# EAGLE library part DF17-20P (library Lysenko_Eagle_Lib)
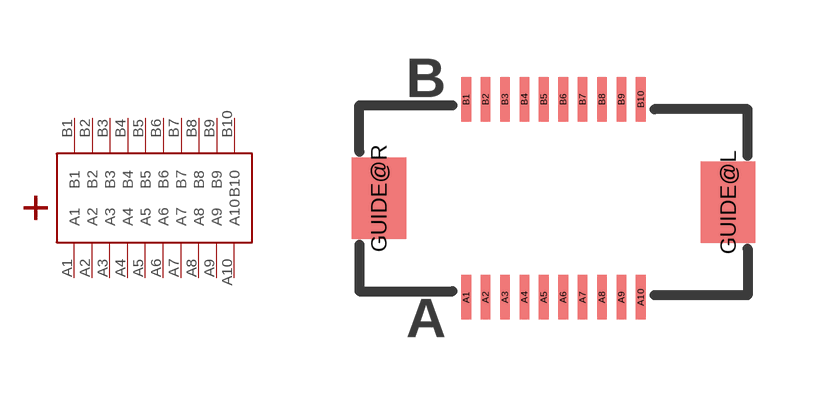
[diagram p13: symbol with the pads of DF17-20P; footprint DF17-20P]

Designator prefix -

## DF17-20P  [DF17-20P]
A1  A1
A2  A2
A3  A3
A4  A4
A5  A5
A6  A6
A7  A7
A8  A8
A9  A9
A10  A10
B1  B1
B2  B2
B3  B3
B4  B4
B5  B5
B6  B6
B7  B7
B8  B8
B9  B9
B10  B10

## Footprint DF17-20P (pad centres in mm)
smd 0.25 x 1.15: A1 -4.67,-2.553; A2 -4.17,-2.553; A3 -3.67,-2.553; A4 -3.17,-2.553; A5 -2.67,-2.553; A6 -2.17,-2.553; A7 -1.67,-2.553; A8 -1.17,-2.553; A9 -0.67,-2.553; A10 -0.17,-2.553; B1 -4.67,2.553; B2 -4.17,2.553; B3 -3.67,2.553; B4 -3.17,2.553; B5 -2.67,2.553; B6 -2.17,2.553; B7 -1.67,2.553; B8 -1.17,2.553; B9 -0.67,2.553; B10 -0.17,2.553
smd 1.4 x 2.1: GUIDE@L 2.08,-0.1; GUIDE@R -6.92,0